# EAGLE library part PIC18F46K22-I_P (library PIC18F46K22-I_P)
40-Pin, Low-Power, High-Performance Microcontrollers with XLP Technology Source: Datasheet <https://datasheet.datasheetarchive.com/originals/distributors/Datasheets-DGA18/353826.pdf>
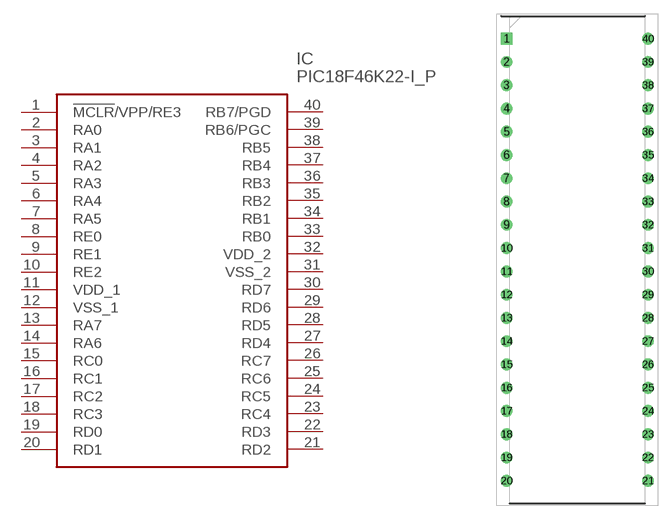
[diagram p0: symbol with the pads of DIP1543W58P254L5175H635Q40N; footprint DIP1543W58P254L5175H635Q40N]

Designator prefix IC

## PIC18F46K22-I_P (Description: 40-Pin, Low-Power, High-Performance Microcontrollers with XLP Technology; Height: 6.35mm; Manufacturer_Name: Microchip; Manufacturer_Part_Number: PIC18F46K22-I/P; Mouser_Part_Number: 579-PIC18F46K22IP; Mouser_Price-Stock: https://www.mouser.co.uk/ProductDetail/Microchip-Technology-Atmel/PIC18F46K22-I-P?qs=RXaOwepKlZ25Gu9j%2FAjmfw%3D%3D)  [DIP1543W58P254L5175H635Q40N]
1  !MCLR!/VPP/RE3
2  RA0
3  RA1
4  RA2
5  RA3
6  RA4
7  RA5
8  RE0
9  RE1
10  RE2
11  VDD_1
12  VSS_1
13  RA7
14  RA6
15  RC0
16  RC1
17  RC2
18  RC3
19  RD0
20  RD1
21  RD2
22  RD3
23  RC4
24  RC5
25  RC6
26  RC7
27  RD4
28  RD5
29  RD6
30  RD7
31  VSS_2
32  VDD_2
33  RB0
34  RB1
35  RB2
36  RB3
37  RB4
38  RB5
39  RB6/PGC
40  RB7/PGD

## Footprint DIP1543W58P254L5175H635Q40N (pad centres in mm)
PDIP 40
drill 0.784 pad 1.184 square: 1 -7.715,24.13
drill 0.784 pad 1.184: 2 -7.715,21.59; 3 -7.715,19.05; 4 -7.715,16.51; 5 -7.715,13.97; 6 -7.715,11.43; 7 -7.715,8.89; 8 -7.715,6.35; 9 -7.715,3.81; 10 -7.715,1.27; 11 -7.715,-1.27; 12 -7.715,-3.81; 13 -7.715,-6.35; 14 -7.715,-8.89; 15 -7.715,-11.43; 16 -7.715,-13.97; 17 -7.715,-16.51; 18 -7.715,-19.05; 19 -7.715,-21.59; 20 -7.715,-24.13; 21 7.715,-24.13; 22 7.715,-21.59; 23 7.715,-19.05; 24 7.715,-16.51; 25 7.715,-13.97; 26 7.715,-11.43; 27 7.715,-8.89; 28 7.715,-6.35; 29 7.715,-3.81; 30 7.715,-1.27; 31 7.715,1.27; 32 7.715,3.81; 33 7.715,6.35; 34 7.715,8.89; 35 7.715,11.43; 36 7.715,13.97; 37 7.715,16.51; 38 7.715,19.05; 39 7.715,21.59; 40 7.715,24.13